# EAGLE library part 74X595-SHIFT-REGISTER (library FlashPCB_ICs)
SN74LS595D (74x595) - IC SERIAL-IN SHIFT-REG 16-SOIC Technical Specifications: Shift Shift Register 1 Element 8 Bit 16-SOIC Logic Type: Shift Register Function: Serial to Parallel, Serial Output Type: 3-State Number of Elements: 1 Bits per Element: 8 Supply Voltage: 4.75V~5.25V Component Search: SN74LS595D <https://www.flashpcb.com/components> Datasheet: 8-Bit Shift Registers With Output Latches datasheet <https://www.ti.com/lit/ds/symlink/sn74ls595.pdf?HQS=dis-dk-null-digikeymode-dsf-pf-null-wwe&ts=1683822910758&ref_url=https%253A%252F%252Fwww.ti.com%252Fgeneral%252Fdocs%252Fsuppproductinfo.tsp%253FdistId%253D10%2526gotoUrl%253Dhttps%253A%252F%252Fwww.ti.com%252Flit%252Fgpn%252Fsn74ls595>
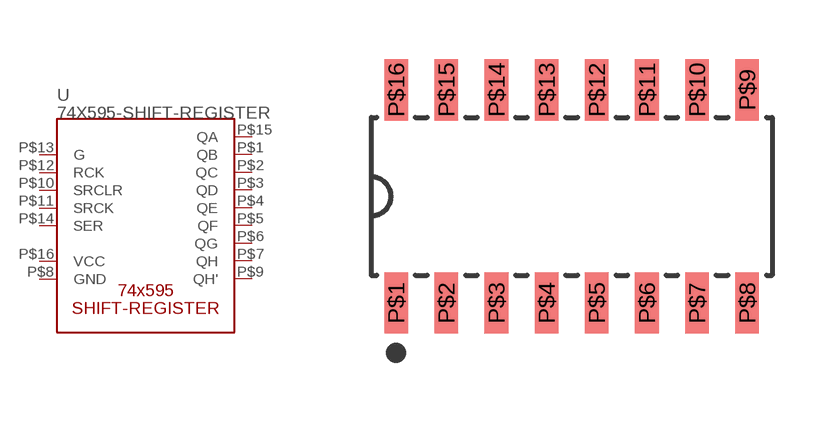
[diagram p8: symbol with the pads of SOIC-16-150MIL-3.9MM; footprint SOIC-16-150MIL-3.9MM]

Designator prefix U

## 74X595-SHIFT-REGISTERD  [SOIC-16-150MIL-3.9MM]
P$1  QB
P$2  QC
P$3  QD
P$4  QE
P$5  QF
P$6  QG
P$7  QH
P$8  GND
P$9  QH'
P$10  SRCLR
P$11  SRCK
P$12  RCK
P$13  G
P$14  SER
P$15  QA
P$16  VCC

## Footprint SOIC-16-150MIL-3.9MM (pad centres in mm)
smd 0.6 x 1.55: P$1 -4.445,-2.7; P$2 -3.175,-2.7; P$3 -1.905,-2.7; P$4 -0.635,-2.7; P$5 0.635,-2.7; P$6 1.905,-2.7; P$7 3.175,-2.7; P$8 4.445,-2.7; P$9 4.445,2.7; P$10 3.175,2.7; P$11 1.905,2.7; P$12 0.635,2.7; P$13 -0.635,2.7; P$14 -1.905,2.7; P$15 -3.175,2.7; P$16 -4.445,2.7